# EAGLE library part 1X08 (library Ai_Connectors)
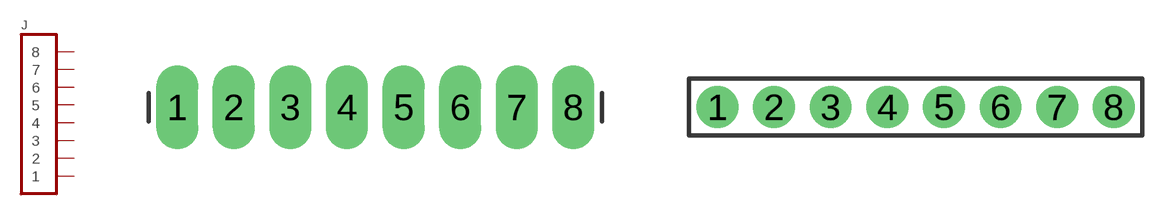
[diagram p0: symbol with the pads of 1X08-LONG; footprints 1X08-LONG, 1X08]

Designator prefix J

## 1X08LONG  [1X08-LONG]
1  1
2  2
3  3
4  4
5  5
6  6
7  7
8  8

## 1X08  [1X08]
Pads as for 1X08-LONG

## 1X08NFNS  [1X08-NFNS]
Pads as for 1X08-LONG

## 1X08NOFIRST  [1X08-NOFIRST]
Pads as for 1X08-LONG

## Footprint 1X08-LONG (pad centres in mm)
drill 1.118 pad 1.88 long: 1 -8.89,0; 2 -6.35,0; 3 -3.81,0; 4 -1.27,0; 5 1.27,0; 6 3.81,0; 7 6.35,0; 8 8.89,0

## Footprint 1X08 (pad centres in mm)
drill 1.016 pad 1.88: 1 -8.89,0; 2 -6.35,0; 3 -3.81,0; 4 -1.27,0; 5 1.27,0; 6 3.81,0; 7 6.35,0; 8 8.89,0

## Footprint 1X08-NFNS (pad centres in mm)
drill 1.016 pad 1.88: 1 -8.89,0; 2 -6.35,0; 3 -3.81,0; 4 -1.27,0; 5 1.27,0; 6 3.81,0; 7 6.35,0; 8 8.89,0

## Footprint 1X08-NOFIRST (pad centres in mm)
drill 1.016 pad 1.88: 1 -8.89,0; 2 -6.35,0; 3 -3.81,0; 4 -1.27,0; 5 1.27,0; 6 3.81,0; 7 6.35,0; 8 8.89,0